# Altium footprint library Oscillator.PcbLib: 62 footprints (part 4 of 4)
Each footprint in its own frame and in the unit in brackets; x right, y up, seen from the top. Pads: shape width x height; smd on the part's side, far side on the other; paste and mask are expansions set on the pad; w line width, h text height; cw(c..) or ccw(c..) is an arc to the next point about the centre after c.
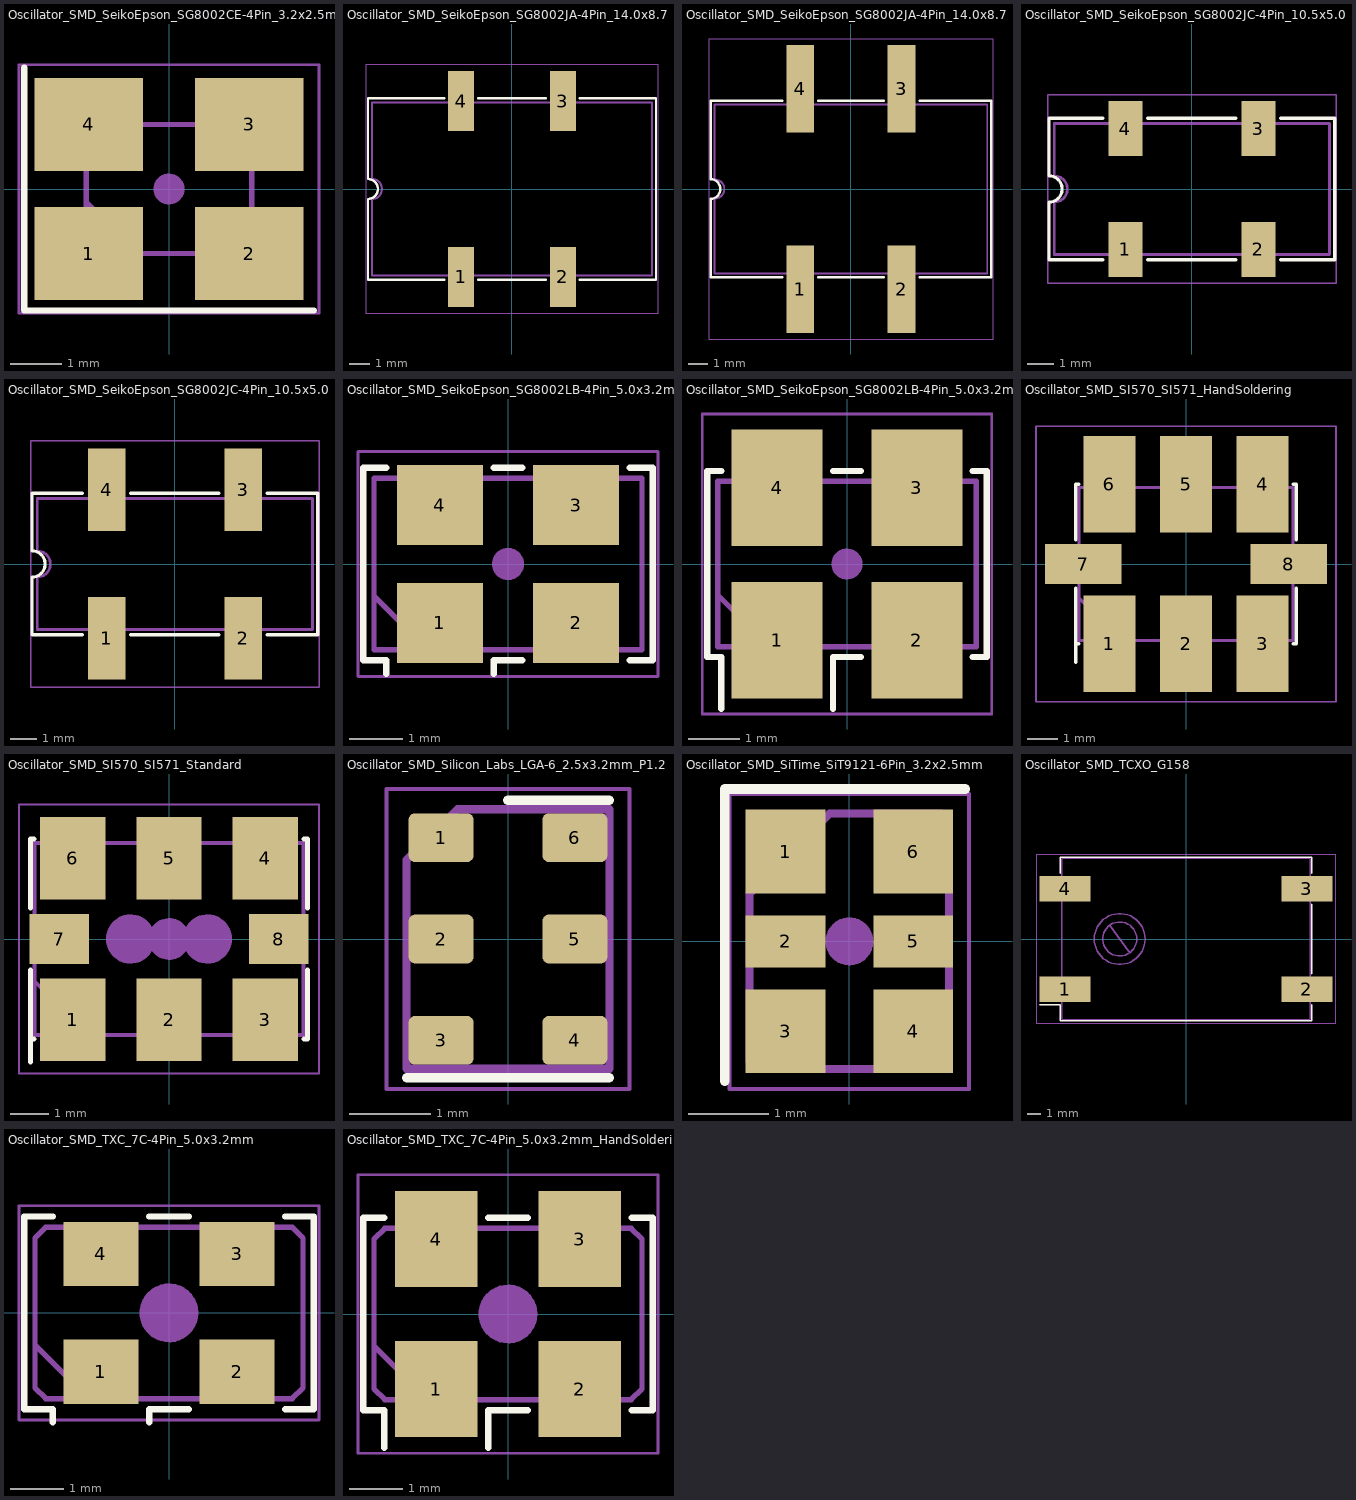
[diagram p3: the footprints below, top view; thin cyan lines are the x and y axes]

## Oscillator_SMD_SeikoEpson_SG8002CE-4Pin_3.2x2.5mm_HandSoldering [mm]
pads (4):
  rect 2.1x1.8 smd: 1(-1.55,-1.25) 2(1.55,-1.25) 3(1.55,1.25) 4(-1.55,1.25)
F.SilkS:
  lines w0.12: -2.8,2.35 -2.8,-2.35 2.8,-2.35
F.CrtYd:
  lines w0.05: -2.9,-2.4 -2.9,2.4 2.9,2.4 2.9,-2.4 -2.9,-2.4
F.Fab:
  lines w0.1: -1.6,-0.25 -0.6,-1.25 ; -1.6,-1.15 -1.6,1.15 -1.5,1.25 1.5,1.25 1.6,1.15 1.6,-1.15 1.5,-1.25 -1.5,-1.25 -1.6,-1.15
  text "'.Designator'" at -2.833,-0.588 h0.7
F.Adhes:
  circle w0.1: c0,0 r0.25
  circle w0.083: c0,0 r0.133
  circle w0.083: c0,0 r0.208
  circle w0.117: c0,0 r0.058

## Oscillator_SMD_SeikoEpson_SG8002JA-4Pin_14.0x8.7mm [mm]
pads (4):
  rect 1.3x3 smd: 1(-2.54,-4.4) 2(2.54,-4.4) 3(2.54,4.4) 4(-2.54,4.4)
F.SilkS:
  lines w0.12: -3.39,-4.53 -7.2,-4.53 -7.2,-0.5 ccw(c-7.2,0) -7.2,0.5 -7.2,4.53 -3.39,4.53 ; -1.69,-4.53 1.69,-4.53 ; -1.69,4.53 1.69,4.53 ; 3.39,-4.53 7.2,-4.53 7.2,4.53 3.39,4.53
F.CrtYd:
  lines w0.05: -7.3,-6.2 7.3,-6.2 7.3,6.2 -7.3,6.2 -7.3,-6.2
F.Fab:
  lines w0.1: -7,-4.33 -7,-0.5 ccw(c-7,0) -7,0.5 -7,4.33 7,4.33 7,-4.33 -7,-4.33
  text "'.Designator'" at -4.047,-0.84 h1

## Oscillator_SMD_SeikoEpson_SG8002JA-4Pin_14.0x8.7mm_HandSoldering [mm]
pads (4):
  rect 1.43x4.5 smd: 1(-2.6,-5.15) 2(2.6,-5.15) 3(2.6,5.15) 4(-2.6,5.15)
F.SilkS:
  lines w0.12: -3.52,-4.53 -7.2,-4.53 -7.2,-0.5 ccw(c-7.2,0) -7.2,0.5 -7.2,4.53 -3.52,4.53 ; -1.69,-4.53 1.69,-4.53 ; -1.69,4.53 1.69,4.53 ; 3.52,-4.53 7.2,-4.53 7.2,4.53 3.52,4.53
F.CrtYd:
  lines w0.05: -7.3,-7.7 -7.3,7.7 7.3,7.7 7.3,-7.7 -7.3,-7.7
F.Fab:
  lines w0.1: -7,-4.33 -7,-0.5 ccw(c-7,0) -7,0.5 -7,4.33 7,4.33 7,-4.33 -7,-4.33
  text "'.Designator'" at -4.047,-0.84 h1

## Oscillator_SMD_SeikoEpson_SG8002JC-4Pin_10.5x5.0mm [mm]
pads (4):
  rect 1.3x2.1 smd: 1(-2.54,-2.3) 2(2.54,-2.3) 3(2.54,2.3) 4(-2.54,2.3)
F.SilkS:
  lines w0.12: -3.39,-2.7 -5.45,-2.7 -5.45,-0.5 ccw(c-5.45,0) -5.45,0.5 -5.45,2.7 -3.39,2.7 ; -1.69,-2.7 1.69,-2.7 ; -1.69,2.7 1.69,2.7 ; 3.39,-2.7 5.45,-2.7 5.45,2.7 3.39,2.7
F.CrtYd:
  lines w0.05: -5.5,-3.6 5.5,-3.6 5.5,3.6 -5.5,3.6 -5.5,-3.6
F.Fab:
  lines w0.1: -5.25,-2.5 5.25,-2.5 5.25,2.5 -5.25,2.5 -5.25,0.5 cw(c-5.25,0) -5.25,-0.5 -5.25,-2.5
  text "'.Designator'" at -4.047,-0.84 h1

## Oscillator_SMD_SeikoEpson_SG8002JC-4Pin_10.5x5.0mm_HandSoldering [mm]
pads (4):
  rect 1.43x3.15 smd: 1(-2.6,-2.83) 2(2.6,-2.83) 3(2.6,2.83) 4(-2.6,2.83)
F.SilkS:
  lines w0.12: -3.52,-2.7 -5.45,-2.7 -5.45,-0.5 ccw(c-5.45,0) -5.45,0.5 -5.45,2.7 -3.52,2.7 ; -1.69,-2.7 1.69,-2.7 ; -1.69,2.7 1.69,2.7 ; 3.52,-2.7 5.45,-2.7 5.45,2.7 3.52,2.7
F.CrtYd:
  lines w0.05: -5.5,-4.7 5.5,-4.7 5.5,4.7 -5.5,4.7 -5.5,-4.7
F.Fab:
  lines w0.1: -5.25,-2.5 5.25,-2.5 5.25,2.5 -5.25,2.5 -5.25,0.5 cw(c-5.25,0) -5.25,-0.5 -5.25,-2.5
  text "'.Designator'" at -4.047,-0.84 h1

## Oscillator_SMD_SeikoEpson_SG8002LB-4Pin_5.0x3.2mm [mm]
pads (4):
  rect 1.6x1.5 smd: 1(-1.27,-1.1) 2(1.27,-1.1) 3(1.27,1.1) 4(-1.27,1.1)
F.SilkS:
  lines w0.12: -2.27,-2.05 -2.27,-1.8 -2.7,-1.8 -2.7,1.8 -2.27,1.8 ; -0.27,-2.05 -0.27,-1.8 0.27,-1.8 ; -0.27,1.8 0.27,1.8 ; 2.27,-1.8 2.7,-1.8 2.7,1.8 2.27,1.8
F.CrtYd:
  lines w0.05: -2.8,-2.1 -2.8,2.1 2.8,2.1 2.8,-2.1 -2.8,-2.1
F.Fab:
  lines w0.1: -2.5,-0.6 -1.5,-1.6 ; -2.5,-1.6 2.5,-1.6 2.5,1.6 -2.5,1.6 -2.5,-1.6
  text "'.Designator'" at -4.047,-0.84 h1
F.Adhes:
  circle w0.1: c0,0 r0.25
  circle w0.083: c0,0 r0.133
  circle w0.083: c0,0 r0.208
  circle w0.117: c0,0 r0.058

## Oscillator_SMD_SeikoEpson_SG8002LB-4Pin_5.0x3.2mm_HandSoldering [mm]
pads (4):
  rect 1.76x2.25 smd: 1(-1.35,-1.475) 2(1.35,-1.475) 3(1.35,1.475) 4(-1.35,1.475)
F.SilkS:
  lines w0.12: -2.43,-2.8 -2.43,-1.8 -2.7,-1.8 -2.7,1.8 -2.43,1.8 ; -0.27,-2.8 -0.27,-1.8 0.27,-1.8 ; -0.27,1.8 0.27,1.8 ; 2.43,-1.8 2.7,-1.8 2.7,1.8 2.43,1.8
F.CrtYd:
  lines w0.05: -2.8,-2.9 2.8,-2.9 2.8,2.9 -2.8,2.9 -2.8,-2.9
F.Fab:
  lines w0.1: -2.5,-0.6 -1.5,-1.6 ; -2.5,-1.6 -2.5,1.6 2.5,1.6 2.5,-1.6 -2.5,-1.6
  text "'.Designator'" at -4.047,-0.84 h1
F.Adhes:
  circle w0.083: c0,0 r0.133
  circle w0.117: c0,0 r0.058
  circle w0.1: c0,0 r0.25
  circle w0.083: c0,0 r0.208

## Oscillator_SMD_SI570_SI571_HandSoldering [mm]
pads (8):
  rect 1.7x3.15 smd: 1(-2.5,-2.6) 2(0,-2.6) 3(2.5,-2.6) 4(2.5,2.6) 5(0,2.6) 6(-2.5,2.6)
  rect 2.5x1.3 smd: 7(-3.35,0) 8(3.35,0)
F.SilkS:
  lines w0.12: -3.6,-3.2 -3.6,-0.8 ; -3.6,-2.6 -3.5,-2.6 ; -3.6,0.8 -3.6,2.5 -3.6,2.6 -3.5,2.6 ; 3.5,-2.6 3.6,-2.6 3.6,-2.5 3.6,-0.8 ; 3.5,2.6 3.6,2.6 3.6,2.5 3.6,0.8
F.CrtYd:
  lines w0.05: -4.9,-4.5 -4.9,4.5 4.9,4.5 4.9,-4.5 -4.9,-4.5
F.Fab:
  lines w0.1: -3.5,-1.1 -2.1,-2.5 ; -3.5,-2.5 3.5,-2.5 3.5,2.5 -3.5,2.5 -3.5,-2.5
  text "'.Designator'" at -4.047,-0.84 h1

## Oscillator_SMD_SI570_SI571_Standard [mm]
pads (8):
  rect 1.7x2.15 smd: 1(-2.5,-2.1) 2(0,-2.1) 3(2.5,-2.1) 4(2.5,2.1) 5(0,2.1) 6(-2.5,2.1)
  rect 1.55x1.3 smd: 7(-2.85,0) 8(2.85,0)
F.SilkS:
  lines w0.12: -3.6,-3.2 -3.6,-0.8 ; -3.6,-2.6 -3.5,-2.6 ; -3.6,0.8 -3.6,2.5 -3.6,2.6 -3.5,2.6 ; 3.5,-2.6 3.6,-2.6 3.6,-2.5 3.6,-0.8 ; 3.5,2.6 3.6,2.6 3.6,2.5 3.6,0.8
F.CrtYd:
  lines w0.05: -3.9,-3.5 -3.9,3.5 3.9,3.5 3.9,-3.5 -3.9,-3.5
F.Fab:
  lines w0.1: -3.5,-1.1 -2.1,-2.5 ; -3.5,-2.5 3.5,-2.5 3.5,2.5 -3.5,2.5 -3.5,-2.5
  text "'.Designator'" at -4.047,-0.84 h1
F.Adhes:
  circle w0.38: c-1,0 r0.45
  circle w0.38: c1,0 r0.45
  circle w0.38: c1,0 r0.15
  circle w0.38: c0,0 r0.35
  circle w0.38: c0,0 r0.15
  circle w0.38: c-1,0 r0.15

## Oscillator_SMD_Silicon_Labs_LGA-6_2.5x3.2mm_P1.25mm [mm]
pads (6):
  rrect25% 0.8x0.6 smd: 1(-0.825,1.25) 2(-0.825,0) 3(-0.825,-1.25) 4(0.825,-1.25) 5(0.825,0) 6(0.825,1.25)
F.SilkS:
  lines w0.12: -1.25,-1.71 1.25,-1.71 ; 0,1.71 1.25,1.71
F.CrtYd:
  lines w0.05: -1.5,-1.85 -1.5,1.85 1.5,1.85 1.5,-1.85 -1.5,-1.85
F.Fab:
  lines w0.1: -1.25,-1.6 1.25,-1.6 1.25,1.6 -0.625,1.6 -1.25,0.975 -1.25,-1.6
  text "'.Designator'" at -2.506,-0.518 h0.62

## Oscillator_SMD_SiTime_SiT9121-6Pin_3.2x2.5mm [mm]
pads (6):
  rect 1x1.05 smd: 1(-0.8,1.125) 3(-0.8,-1.125) 4(0.8,-1.125) 6(0.8,1.125)
  rect 1x0.65 smd: 2(-0.8,0) 5(0.8,0)
F.SilkS:
  lines w0.12: -1.56,-1.75 -1.56,1.91 1.45,1.91
F.CrtYd:
  lines w0.05: -1.5,-1.85 -1.5,1.85 1.5,1.85 1.5,-1.85 -1.5,-1.85
F.Fab:
  lines w0.1: -1.25,-1.5 -1.25,0.6 -0.25,1.6 1.15,1.6 1.25,1.5 1.25,-1.5 1.15,-1.6 -1.15,-1.6 -1.25,-1.5
  text "'.Designator'" at 0.588,-2.833 h0.7
F.Adhes:
  circle w0.083: c0,0 r0.208
  circle w0.1: c0,0 r0.25
  circle w0.117: c0,0 r0.058
  circle w0.083: c0,0 r0.133

## Oscillator_SMD_TCXO_G158 [mm]
pads (4):
  rect 3.81x1.91 smd: 1(-9.02,-3.75) 2(9.02,-3.75) 3(9.02,3.75) 4(-9.02,3.75)
F.SilkS:
  lines w0.12: -10.9,-4.9 -9.4,-4.9 -9.4,-6.1 9.4,-6.1 9.4,-4.9 ; -9.4,4.9 -9.4,6.1 9.4,6.1 9.4,4.9 ; 9.4,-2.6 9.4,2.6
F.CrtYd:
  lines w0.05: -11.2,-6.3 -11.2,6.3 11.2,6.3 11.2,-6.3 -11.2,-6.3
F.Fab:
  circle w0.1: c-4.95,0 r1.27
  circle w0.1: c-4.95,0 r1.9
  lines w0.1: -9.27,-6.03 9.27,-6.03 ; -9.27,-5.97 -9.27,5.97 ; -9.27,6.03 9.27,6.03 ; -5.71,1.02 -4.19,-1.02 ; 9.27,-5.97 9.27,5.97
  text "'.Designator'" at -4.047,-0.84 h1

## Oscillator_SMD_TXC_7C-4Pin_5.0x3.2mm [mm]
pads (4):
  rect 1.4x1.2 smd: 1(-1.27,-1.1) 2(1.27,-1.1) 3(1.27,1.1) 4(-1.27,1.1)
F.SilkS:
  lines w0.12: -2.17,-2.04 -2.17,-1.8 -2.7,-1.8 -2.7,1.8 -2.17,1.8 ; -0.37,-2.04 -0.37,-1.8 0.37,-1.8 ; -0.37,1.8 0.37,1.8 ; 2.17,-1.8 2.7,-1.8 2.7,1.8 2.17,1.8
F.CrtYd:
  lines w0.05: -2.8,-2 -2.8,2 2.8,2 2.8,-2 -2.8,-2
F.Fab:
  lines w0.1: -2.5,-0.6 -1.5,-1.6 ; -2.5,-1.4 -2.3,-1.6 2.3,-1.6 2.5,-1.4 2.5,1.4 2.3,1.6 -2.3,1.6 -2.5,1.4 -2.5,-1.4
  text "'.Designator'" at -4.047,-0.84 h1
F.Adhes:
  circle w0.1: c0,0 r0.5
  circle w0.167: c0,0 r0.267
  circle w0.233: c0,0 r0.117
  circle w0.167: c0,0 r0.417

## Oscillator_SMD_TXC_7C-4Pin_5.0x3.2mm_HandSoldering [mm]
pads (4):
  rect 1.54x1.8 smd: 1(-1.34,-1.4) 2(1.34,-1.4) 3(1.34,1.4) 4(-1.34,1.4)
F.SilkS:
  lines w0.12: -2.31,-2.5 -2.31,-1.8 -2.7,-1.8 -2.7,1.8 -2.31,1.8 ; -0.37,-2.5 -0.37,-1.8 0.37,-1.8 ; -0.37,1.8 0.37,1.8 ; 2.31,-1.8 2.7,-1.8 2.7,1.8 2.31,1.8
F.CrtYd:
  lines w0.05: -2.8,-2.6 -2.8,2.6 2.8,2.6 2.8,-2.6 -2.8,-2.6
F.Fab:
  lines w0.1: -2.5,-0.6 -1.5,-1.6 ; -2.5,-1.4 -2.3,-1.6 2.3,-1.6 2.5,-1.4 2.5,1.4 2.3,1.6 -2.3,1.6 -2.5,1.4 -2.5,-1.4
  text "'.Designator'" at -4.047,-0.84 h1
F.Adhes:
  circle w0.233: c0,0 r0.117
  circle w0.167: c0,0 r0.267
  circle w0.1: c0,0 r0.5
  circle w0.167: c0,0 r0.417